# EAGLE library part AT42QT2120-SU (library AT42QT2120_v21)
COMMS NAMES
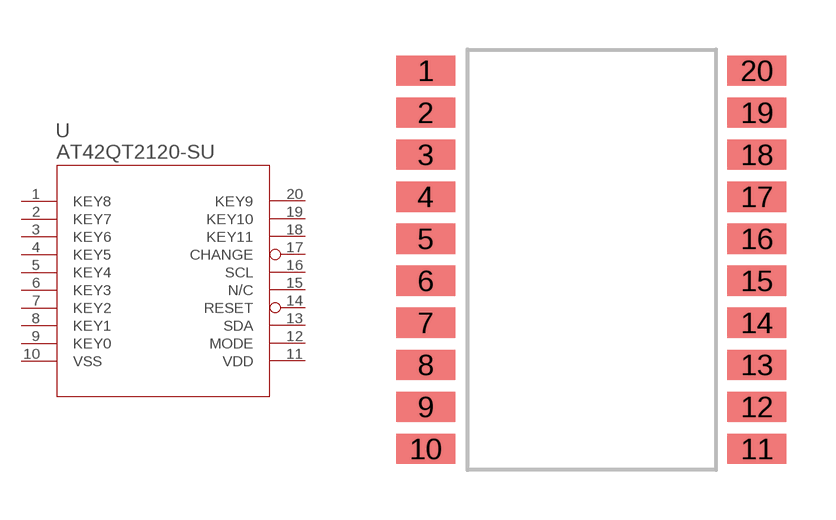
[diagram p0: symbol with the pads of SOIC20; footprint SOIC20]

Designator prefix -

## AT42QT2120-SU  [SOIC20]
1  KEY8
2  KEY7
3  KEY6
4  KEY5
5  KEY4
6  KEY3
7  KEY2
8  KEY1
9  KEY0
10  VSS  pas
11  VDD  pwr
12  MODE  pas
13  SDA
14  RESET  pas
15  N/C  nc
16  SCL
17  CHANGE  in
18  KEY11
19  KEY10
20  KEY9

## Footprint SOIC20 (pad centres in mm)
smd 1.778 x 0.914: 1 0,0; 2 0,-1.27; 3 0,-2.54; 4 0,-3.81; 5 0,-5.08; 6 0,-6.35; 7 0,-7.62; 8 0,-8.89; 9 0,-10.16; 10 0,-11.43; 11 10,-11.43; 12 10,-10.16; 13 10,-8.89; 14 10,-7.62; 15 10,-6.35; 16 10,-5.08; 17 10,-3.81; 18 10,-2.54; 19 10,-1.27; 20 10,0